# EAGLE library part BD6211F-E2 (library EW_IC_Drivers)
None
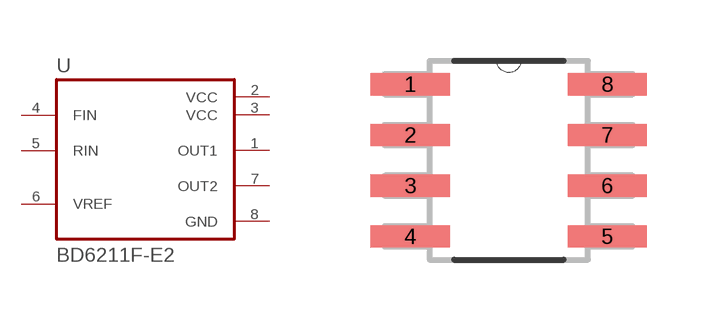
[diagram p0: symbol with the pads of SOIC127P620X175-8N; footprint SOIC127P620X175-8N]

Designator prefix U

## BD6211F-E2 (AVAILABILITY: Unavailable; DESCRIPTION: BD6211F Series Single Output 7 V 1 A DC Brush Motor H-Bridge Driver - SOP-8; MF: Rohm; MP: BD6211F-E2; PACKAGE: SOP-8 Rohm; PRICE: None)  [SOIC127P620X175-8N]
1  OUT1  out
2  VCC  pwr
3  VCC  pwr
4  FIN  in
5  RIN  in
6  VREF  in
7  OUT2  out
8  GND  pwr

## Footprint SOIC127P620X175-8N (pad centres in mm)
smd 1.981 x 0.559: 1 -2.464,1.905; 2 -2.464,0.635; 3 -2.464,-0.635; 4 -2.464,-1.905; 5 2.464,-1.905; 6 2.464,-0.635; 7 2.464,0.635; 8 2.464,1.905